# EAGLE library part INDUCTANCE_SENSOR (library scono)
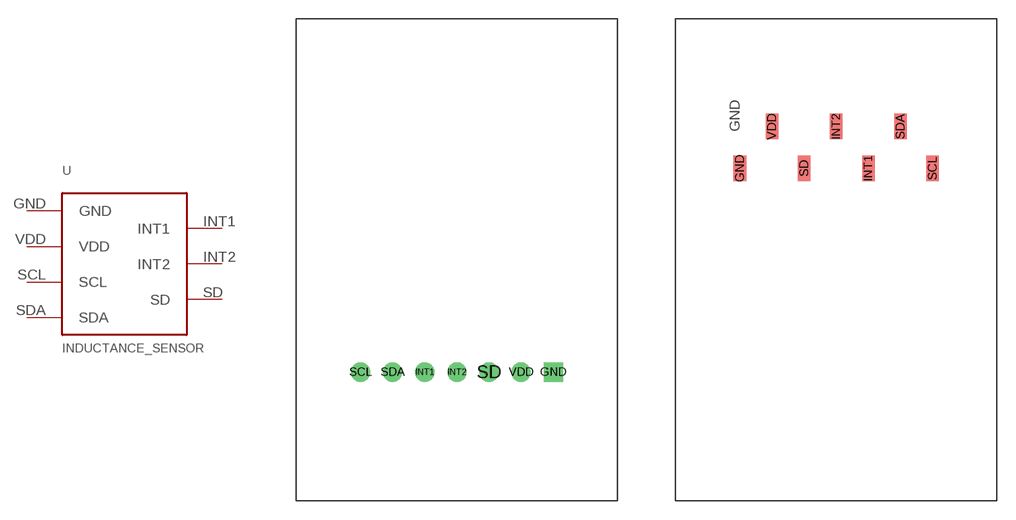
[diagram p18: symbol with the pads of INDUCTANCE_SENSOR; footprints INDUCTANCE_SENSOR, INDUCTANCE_SENSOR_SMT]

Designator prefix -

## INDUCTANCE_SENSORTHRU  [INDUCTANCE_SENSOR]
GND  GND  pwr
INT1  INT1  out
INT2  INT2  out
SCL  SCL  in
SD  SD  in
SDA  SDA
VDD  VDD  pwr

## INDUCTANCE_SENSORSMT  [INDUCTANCE_SENSOR_SMT]
Pads as for INDUCTANCE_SENSOR

## Footprint INDUCTANCE_SENSOR (pad centres in mm)
Inducatance sensor breakout board
drill 1 square: GND 20.32,10.16
drill 1: INT1 10.16,10.16; INT2 12.7,10.16; SCL 5.08,10.16; SD 15.24,10.16; SDA 7.62,10.16; VDD 17.78,10.16

## Footprint INDUCTANCE_SENSOR_SMT (pad centres in mm)
Inducatance sensor breakout board. SMT package. Meant for use with 7 pin smt female header. S5599-ND or equivilant. (Easiest to buy 8 pin variant & cut off a pin)
smd 0.991 x 2.007: GND 5.08,26.289; INT1 15.24,26.289; INT2 12.7,29.591; SCL 20.32,26.289; SD 10.16,26.289; SDA 17.78,29.591; VDD 7.62,29.591